# EAGLE library part A133-1522M1 (library saw-filters-narrowband)
СКТН.433561.133-01 Параметр Ед. изм. Мин. значение Тип. значение Макс. значение Центральная частота МГц 1520 1522 1524 Минимальное вносимое затухание дБ - - 3.9 Полоса среза по уровню -2 дБ МГц 26 - - Полоса среза по уровню -28 дБ МГц - - 75 Неравномерность АЧХ дБ - - 2 Групповое время задержки нс - - - Гарантированное затухание дБ - 28 - Температурный диапазон °C -55 22 +85 Материал подложки - - Танталат лития 36 -
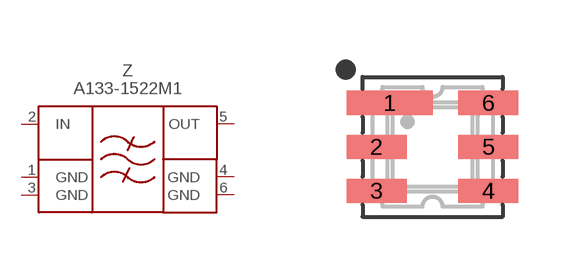
[diagram p15: symbol with the pads of DCC6; footprint DCC6]

Designator prefix Z

## A133-1522M1  [DCC6]
1  GND  pwr
2  IN  in
3  GND  pwr
4  GND  pwr
5  OUT  out
6  GND  pwr

## Footprint DCC6 (pad centres in mm)
smd 2.15 x 0.6: 1 -1.075,1.1
smd 1.5 x 0.6: 2 -1.4,0; 3 -1.4,-1.1; 4 1.4,-1.1; 5 1.4,0; 6 1.4,1.1